# Altium footprint library USB-AM-S-F-B-TH.PcbLib: 1 footprints
Each footprint in its own frame and in the unit in brackets; x right, y up, seen from the top. Pads: shape width x height; smd on the part's side, far side on the other; paste and mask are expansions set on the pad; w line width, h text height; cw(c..) or ccw(c..) is an arc to the next point about the centre after c.
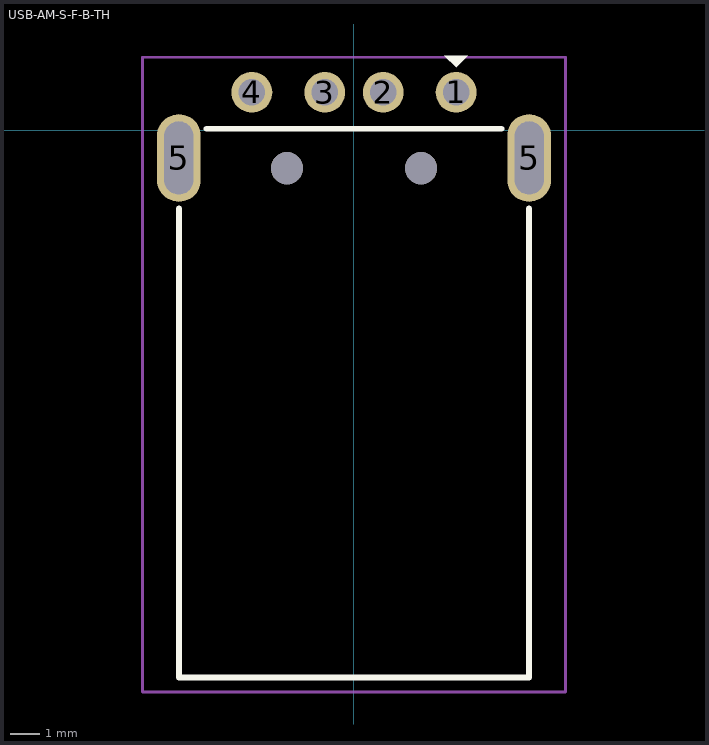
[diagram p0: the footprint, top view; thin cyan lines are the x and y axes]

## USB-AM-S-F-B-TH [mm]
pads (8):
  round 1.4 hole 0.9: 1(3.5,1.3) 2(1,1.3) 3(-1,1.3) 4(-3.5,1.3)
  oval 1.5x3 hole 1 slot 2.5 at 90 deg: 5(-6,-0.95) 5(6,-0.95)
  round 1.1 hole 1.1 unplated: ""(-2.3,-1.3) ""(2.3,-1.3)
Top Overlay:
  region: 3.1,2.55 3.9,2.55 3.5,2.15
  lines w0.2: -6,-2.675 -6,-18.75 6,-18.75 6,-2.675 ; -5.05,0.05 5.05,0.05
Top Courtyard:
  lines w0.1: -3.525,2.5 -7.25,2.5 ; -7.25,2.5 7.25,2.5 7.25,-19.175 7.25,-19.25 -6.35,-19.25 -7.25,-19.25 -7.25,-0.35 -7.25,2.5
3D body "USB-AM-S-F-B-TH.stp": height 4.5, standoff -1.39, extent -6.35,-18.75 6.35,1.45